# EAGLE library part L6726A (library stm-l6726a)
L6726A is a single-phase step-down controller with integrated high-current drivers that provides complete control logic, protections and reference voltage to realize in an easy and simple way general DC-DC converters by using a compact SO-8 package. Device flexibility allows managing conversions with power input VIN as low as 1.5 V and device supply voltage ranging from 5 V to 12 V
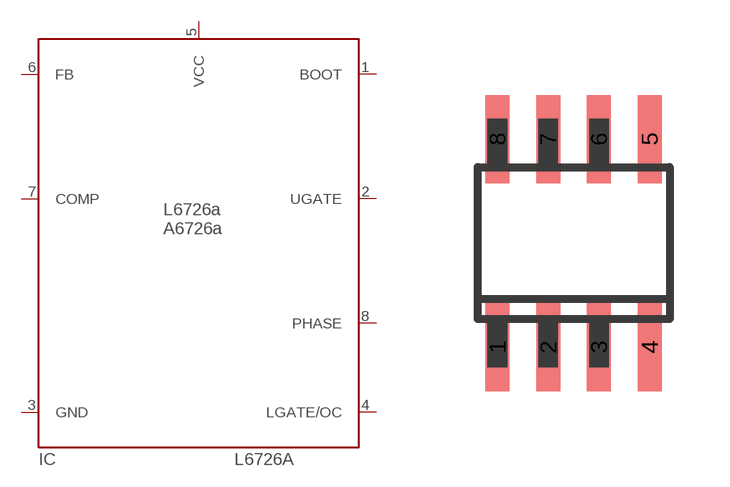
[diagram p0: symbol with the pads of SO-08; footprint SO-08]

Designator prefix IC

## L6726A  [SO-08]
1  BOOT  pwr
2  UGATE  out
3  GND  pwr
4  LGATE/OC  out
5  VCC  pwr
6  FB  in
7  COMP  in
8  PHASE  in

## Footprint SO-08 (pad centres in mm)
Small Outline Narrow Plastic Gull Wing 150-mil body, package type SN
smd 0.6 x 2.2: 1 -1.905,-2.6; 2 -0.635,-2.6; 3 0.635,-2.6; 4 1.905,-2.6; 5 1.905,2.6; 6 0.635,2.6; 7 -0.635,2.6; 8 -1.905,2.6